# Altium footprint library K60-mainboard-v3.1.PcbLib: 108 footprints (part 3 of 7)
Each footprint in its own frame and in the unit in brackets; x right, y up, seen from the top. Pads: shape width x height; smd on the part's side, far side on the other; paste and mask are expansions set on the pad; w line width, h text height; cw(c..) or ccw(c..) is an arc to the next point about the centre after c.
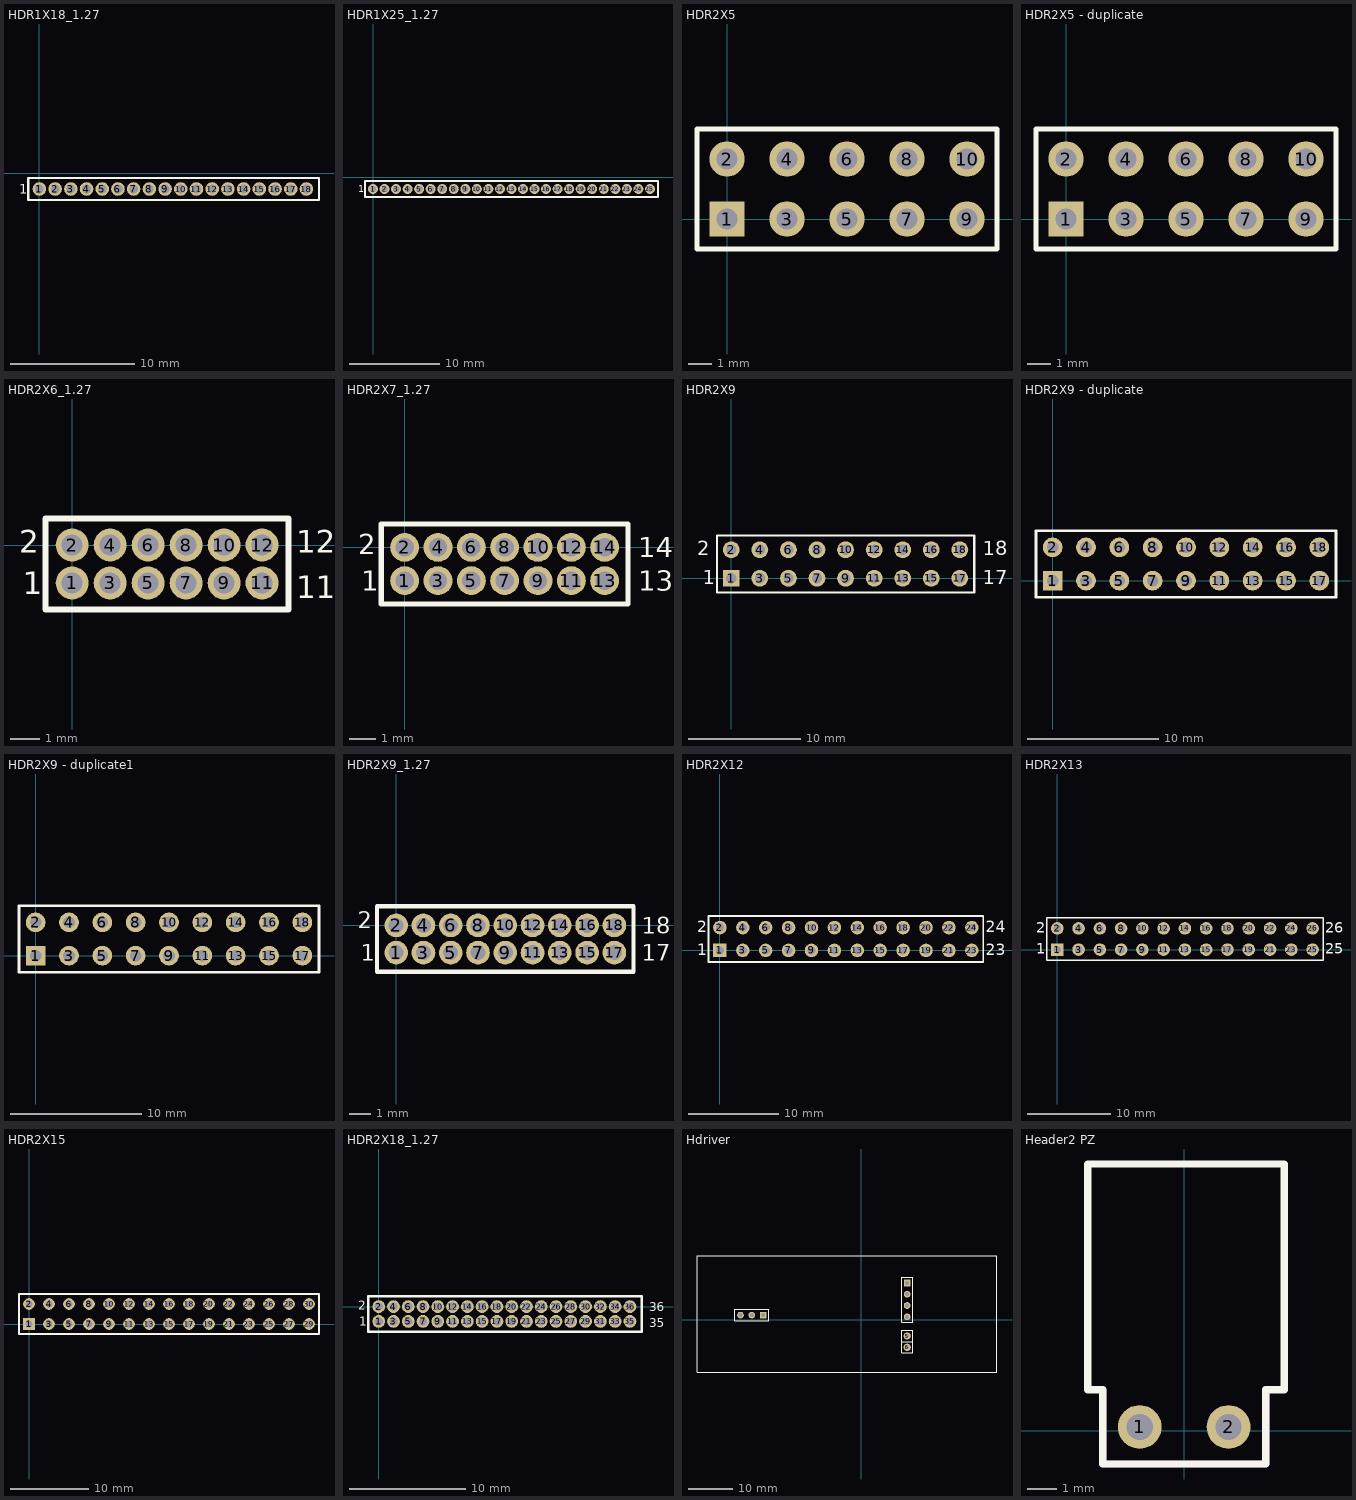
[diagram p2: the footprints below, top view; thin cyan lines are the x and y axes]

## HDR1X18_1.27 [mm]
pads (18):
  round 1.1 hole 0.7: 1(0,-1.27) 2(1.27,-1.27) 3(2.54,-1.27) 4(3.81,-1.27) 5(5.08,-1.27) 6(6.35,-1.27) 7(7.62,-1.27) 8(8.89,-1.27) 9(10.16,-1.27) 10(11.43,-1.27) 11(12.7,-1.27) 12(13.97,-1.27) 13(15.24,-1.27) 14(16.51,-1.27) 15(17.78,-1.27) 16(19.05,-1.27) 17(20.32,-1.27) 18(21.59,-1.27)
Top Overlay:
  lines w0.2: -0.889,-2.159 -0.889,-0.381 22.606,-0.381 22.606,-2.159 -0.889,-2.159
  text "1" at -1.651,-1.651 h0.76

## HDR1X25_1.27 [mm]
pads (25):
  round 1.1 hole 0.7: 1(0,-1.27) 2(1.27,-1.27) 3(2.54,-1.27) 4(3.81,-1.27) 5(5.08,-1.27) 6(6.35,-1.27) 7(7.62,-1.27) 8(8.89,-1.27) 9(10.16,-1.27) 10(11.43,-1.27) 11(12.7,-1.27) 12(13.97,-1.27) 13(15.24,-1.27) 14(16.51,-1.27) 15(17.78,-1.27) 16(19.05,-1.27) 17(20.32,-1.27) 18(21.59,-1.27) 19(22.86,-1.27) 20(24.13,-1.27) 21(25.4,-1.27) 22(26.67,-1.27) 23(27.94,-1.27) 24(29.21,-1.27) 25(30.48,-1.27)
Top Overlay:
  lines w0.2: -0.889,-2.159 31.369,-2.159 31.369,-0.381 -0.889,-0.381 -0.889,-2.159
  text "1" at -1.651,-1.651 h0.76

## HDR2X5 [mm] "Connector; Header; 5x2 Position"
pads (10):
  rect 1.5x1.5 hole 0.9: 1(0,0)
  round 1.5 hole 0.9: 2(0,2.54) 3(2.54,0) 4(2.54,2.54) 5(5.08,0) 6(5.08,2.54) 7(7.62,0) 8(7.62,2.54) 9(10.16,0) 10(10.16,2.54)
Top Overlay:
  lines w0.2: -1.27,-1.27 11.43,-1.27 11.43,3.81 -1.27,3.81 -1.27,-1.27

## HDR2X5 - duplicate [mm] "Connector; Header; 5x2 Position"
pads (10):
  rect 1.5x1.5 hole 0.9: 1(0,0)
  round 1.5 hole 0.9: 2(0,2.54) 3(2.54,0) 4(2.54,2.54) 5(5.08,0) 6(5.08,2.54) 7(7.62,0) 8(7.62,2.54) 9(10.16,0) 10(10.16,2.54)
Top Overlay:
  lines w0.2: -1.27,-1.27 11.43,-1.27 11.43,3.81 -1.27,3.81 -1.27,-1.27

## HDR2X6_1.27 [mm]
pads (12):
  round 1.1 hole 0.7: 1(0,-1.27) 2(0,0) 3(1.27,-1.27) 4(1.27,0) 5(2.54,-1.27) 6(2.54,0) 7(3.81,-1.27) 8(3.81,0) 9(5.08,-1.27) 10(5.08,0) 11(6.35,-1.27) 12(6.35,0)
Top Overlay:
  lines w0.2: -0.889,-2.159 7.239,-2.159 7.239,0.889 -0.889,0.889 -0.889,-2.159
  text "12" at 7.493,-0.254 h0.76
  text "11" at 7.493,-1.778 h0.76
  text "1" at -1.651,-1.651 h0.76
  text "2" at -1.778,-0.254 h0.76

## HDR2X7_1.27 [mm]
pads (14):
  round 1.1 hole 0.7: 1(0,-1.27) 2(0,0) 3(1.27,-1.27) 4(1.27,0) 5(2.54,-1.27) 6(2.54,0) 7(3.81,-1.27) 8(3.81,0) 9(5.08,-1.27) 10(5.08,0) 11(6.35,-1.27) 12(6.35,0) 13(7.62,-1.27) 14(7.62,0)
Top Overlay:
  lines w0.2: -0.889,-2.159 -0.889,0.889 8.509,0.889 8.509,-2.159 -0.889,-2.159
  text "2" at -1.778,-0.254 h0.76
  text "1" at -1.651,-1.651 h0.76
  text "13" at 8.89,-1.651 h0.76
  text "14" at 8.89,-0.381 h0.76

## HDR2X9 [mm] "Connector; Header; 9x2 Position"
pads (18):
  rect 1.5x1.5 hole 0.9: 1(0,0)
  round 1.5 hole 0.9: 2(0,2.54) 3(2.54,0) 4(2.54,2.54) 5(5.08,0) 6(5.08,2.54) 7(7.62,0) 8(7.62,2.54) 9(10.16,0) 10(10.16,2.54) 11(12.7,0) 12(12.7,2.54) 13(15.24,0) 14(15.24,2.54) 15(17.78,0) 16(17.78,2.54) 17(20.32,0) 18(20.32,2.54)
Top Overlay:
  lines w0.2: -1.27,-1.27 -1.27,3.81 21.59,3.81 21.59,-1.27 -1.27,-1.27
  text "2" at -3.048,2.032 h1.27
  text "1" at -2.54,-0.508 h1.27
  text "17" at 22.352,-0.508 h1.27
  text "18" at 22.352,2.032 h1.27

## HDR2X9 - duplicate [mm] "Connector; Header; 9x2 Position"
pads (18):
  rect 1.5x1.5 hole 0.9: 1(0,0)
  round 1.5 hole 0.9: 2(0,2.54) 3(2.54,0) 4(2.54,2.54) 5(5.08,0) 6(5.08,2.54) 7(7.62,0) 8(7.62,2.54) 9(10.16,0) 10(10.16,2.54) 11(12.7,0) 12(12.7,2.54) 13(15.24,0) 14(15.24,2.54) 15(17.78,0) 16(17.78,2.54) 17(20.32,0) 18(20.32,2.54)
Top Overlay:
  lines w0.2: -1.27,-1.27 -1.27,3.81 21.59,3.81 21.59,-1.27 -1.27,-1.27

## HDR2X9 - duplicate1 [mm] "Connector; Header; 9x2 Position"
pads (18):
  rect 1.5x1.5 hole 0.9: 1(0,0)
  round 1.5 hole 0.9: 2(0,2.54) 3(2.54,0) 4(2.54,2.54) 5(5.08,0) 6(5.08,2.54) 7(7.62,0) 8(7.62,2.54) 9(10.16,0) 10(10.16,2.54) 11(12.7,0) 12(12.7,2.54) 13(15.24,0) 14(15.24,2.54) 15(17.78,0) 16(17.78,2.54) 17(20.32,0) 18(20.32,2.54)
Top Overlay:
  lines w0.2: -1.27,-1.27 -1.27,3.81 21.59,3.81 21.59,-1.27 -1.27,-1.27

## HDR2X9_1.27 [mm]
pads (18):
  round 1.1 hole 0.7: 1(0,-1.27) 2(0,0) 3(1.27,-1.27) 4(1.27,0) 5(2.54,-1.27) 6(2.54,0) 7(3.81,-1.27) 8(3.81,0) 9(5.08,-1.27) 10(5.08,0) 11(6.35,-1.27) 12(6.35,0) 13(7.62,-1.27) 14(7.62,0) 15(8.89,-1.27) 16(8.89,0) 17(10.16,-1.27) 18(10.16,0)
Top Overlay:
  lines w0.2: -0.889,-2.159 -0.889,0.889 11.049,0.889 11.049,-2.159 -0.889,-2.159
  text "2" at -1.778,-0.127 h0.76
  text "1" at -1.651,-1.651 h0.76
  text "17" at 11.43,-1.651 h0.76
  text "18" at 11.43,-0.381 h0.76

## HDR2X12 [mm] "Connector; Header; 12x2 Position"
height 1.76
pads (24):
  rect 1.5x1.5 hole 0.9: 1(0,0)
  round 1.5 hole 0.9: 2(0,2.54) 3(2.54,0) 4(2.54,2.54) 5(5.08,0) 6(5.08,2.54) 7(7.62,0) 8(7.62,2.54) 9(10.16,0) 10(10.16,2.54) 11(12.7,0) 12(12.7,2.54) 13(15.24,0) 14(15.24,2.54) 15(17.78,0) 16(17.78,2.54) 17(20.32,0) 18(20.32,2.54) 19(22.86,0) 20(22.86,2.54) 21(25.4,0) 22(25.4,2.54) 23(27.94,0) 24(27.94,2.54)
Top Overlay:
  lines w0.2: -1.27,-1.27 29.21,-1.27 29.21,3.81 -1.27,3.81 -1.27,-1.27
  text "24" at 29.464,2.032 h1.27
  text "23" at 29.464,-0.508 h1.27
  text "2" at -2.54,2.032 h1.27
  text "1" at -2.54,-0.508 h1.27

## HDR2X13 [mm] "Connector; Header; 13x2 Position"
height 1.76
pads (26):
  rect 1.5x1.5 hole 0.9: 1(0,0)
  round 1.5 hole 0.9: 2(0,2.54) 3(2.54,0) 4(2.54,2.54) 5(5.08,0) 6(5.08,2.54) 7(7.62,0) 8(7.62,2.54) 9(10.16,0) 10(10.16,2.54) 11(12.7,0) 12(12.7,2.54) 13(15.24,0) 14(15.24,2.54) 15(17.78,0) 16(17.78,2.54) 17(20.32,0) 18(20.32,2.54) 19(22.86,0) 20(22.86,2.54) 21(25.4,0) 22(25.4,2.54) 23(27.94,0) 24(27.94,2.54) 25(30.48,0) 26(30.48,2.54)
Top Overlay:
  lines w0.2: -1.27,-1.27 -1.27,3.81 31.75,3.81 31.75,-1.27 -1.27,-1.27
  text "2" at -2.54,2.032 h1.27
  text "1" at -2.54,-0.508 h1.27
  text "25" at 32.004,-0.508 h1.27
  text "26" at 32.004,2.032 h1.27

## HDR2X15 [mm] "Connector; Header; 15x2 Position"
height 1.76
pads (30):
  rect 1.5x1.5 hole 0.9: 1(0,0)
  round 1.5 hole 0.9: 2(0,2.54) 3(2.54,0) 4(2.54,2.54) 5(5.08,0) 6(5.08,2.54) 7(7.62,0) 8(7.62,2.54) 9(10.16,0) 10(10.16,2.54) 11(12.7,0) 12(12.7,2.54) 13(15.24,0) 14(15.24,2.54) 15(17.78,0) 16(17.78,2.54) 17(20.32,0) 18(20.32,2.54) 19(22.86,0) 20(22.86,2.54) 21(25.4,0) 22(25.4,2.54) 23(27.94,0) 24(27.94,2.54) 25(30.48,0) 26(30.48,2.54) 27(33.02,0) 28(33.02,2.54) 29(35.56,0) 30(35.56,2.54)
Top Overlay:
  lines w0.2: -1.27,-1.27 -1.27,3.81 36.83,3.81 36.83,-1.27 -1.27,-1.27

## HDR2X18_1.27 [mm]
pads (36):
  round 1.1 hole 0.7: 1(0,-1.27) 2(0,0) 3(1.27,-1.27) 4(1.27,0) 5(2.54,-1.27) 6(2.54,0) 7(3.81,-1.27) 8(3.81,0) 9(5.08,-1.27) 10(5.08,0) 11(6.35,-1.27) 12(6.35,0) 13(7.62,-1.27) 14(7.62,0) 15(8.89,-1.27) 16(8.89,0) 17(10.16,-1.27) 18(10.16,0) 19(11.43,-1.27) 20(11.43,0) 21(12.7,-1.27) 22(12.7,0) 23(13.97,-1.27) 24(13.97,0) 25(15.24,-1.27) 26(15.24,0) 27(16.51,-1.27) 28(16.51,0) 29(17.78,-1.27) 30(17.78,0) 31(19.05,-1.27) 32(19.05,0) 33(20.32,-1.27) 34(20.32,0) 35(21.59,-1.27) 36(21.59,0)
Top Overlay:
  lines w0.2: -0.889,-2.159 -0.889,0.889 22.606,0.889 22.606,-2.159 -0.889,-2.159
  text "2" at -1.778,-0.254 h0.76
  text "1" at -1.651,-1.651 h0.76
  text "35" at 23.241,-1.778 h0.76
  text "36" at 23.241,-0.381 h0.76

## Hdriver [mm]
pads (9):
  rect 1.5x1.5 hole 0.9: 1(10.287,8.255) 7(-22.098,1.016)
  round 1.5 hole 0.9: 2(10.287,5.715) 3(10.287,3.175) 4(10.287,0.635) 8(-24.638,1.016) 9(-27.178,1.016)
  round 1.651 hole 0.813: 5(10.287,-3.683) 6(10.287,-6.223)
Top Overlay:
  lines w0.2: -28.448,-0.254 -28.448,2.286 -20.828,2.286 -20.828,-0.254 -28.448,-0.254 ; 9.017,-0.635 11.557,-0.635 11.557,9.525 9.017,9.525 9.017,-0.635
  lines w0.254: 9.017,-4.953 11.557,-4.953 ; -36.957,-11.811 30.48,-11.811 30.48,14.351 -36.957,14.351 -36.957,-11.811 ; 9.017,-7.493 9.017,-2.413 11.557,-2.413 11.557,-7.493 9.017,-7.493

## Header2 PZ [mm]
pads (2):
  round 1.5 hole 0.9: 1(-1.524,0.127) 2(1.524,0.127)
Top Overlay:
  lines w0.254: -3.302,1.397 -2.794,1.397 -2.794,-1.143 2.794,-1.143 2.794,1.397 3.429,1.397 3.429,9.144 -3.302,9.144 -3.302,1.397
Mechanical 15:
  lines w0.254: -2.794,1.397 -2.794,-1.143 2.794,-1.143 2.794,1.397